# Altium schematic symbol library HE3600.Schlib: 1 symbol
Pins are listed as number, name and electrical type; pins without a type are passive.

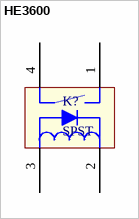
[diagram p0: symbol HE3600]

## HE3600
designator K?, comment SPST
pins: 1, 2, 3, 4